# Altium footprint library JST XH 7PINS.PcbLib: 1 footprints
Each footprint in its own frame and in the unit in brackets; x right, y up, seen from the top. Pads: shape width x height; smd on the part's side, far side on the other; paste and mask are expansions set on the pad; w line width, h text height; cw(c..) or ccw(c..) is an arc to the next point about the centre after c.
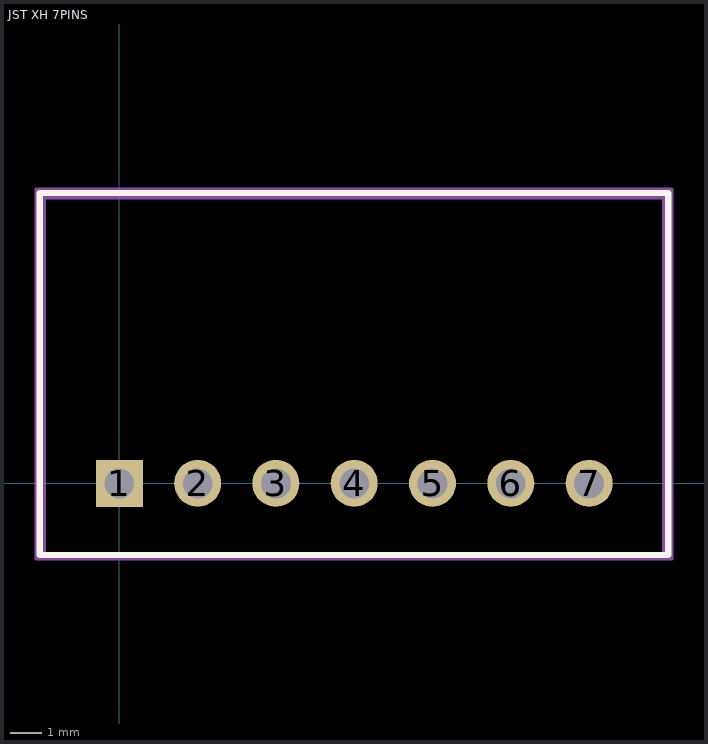
[diagram p0: the footprint, top view; thin cyan lines are the x and y axes]

## JST XH 7PINS [mm]
pads (7):
  rect 1.5x1.5 hole 0.95: 1(0,0)
  round 1.5 hole 0.95: 2(2.5,0) 3(5,0) 4(7.5,0) 5(10,0) 6(12.5,0) 7(15,0)
Top Overlay:
  lines w0.2: -2.54,-2.286 17.526,-2.286 17.526,9.271 -2.54,9.271 -2.54,-2.286
Top Assembly:
  lines w0.15: -2.413,-2.286 -2.413,9.144 17.399,9.144 17.399,-2.286 -2.413,-2.286
Top Courtyard:
  lines w0.1: -2.667,-2.413 -2.667,9.398 17.653,9.398 17.653,-2.413 -2.667,-2.413
3D body "S7B-XH-A(LF)(SN)--3DModel-STEP-56544.STEP": height 6.15, standoff -3.4, extent -2.45,-2.321 17.45,9.179